# EAGLE library part STLZ_1550/12GV (library con-ptr-stlz1550)
HEADER
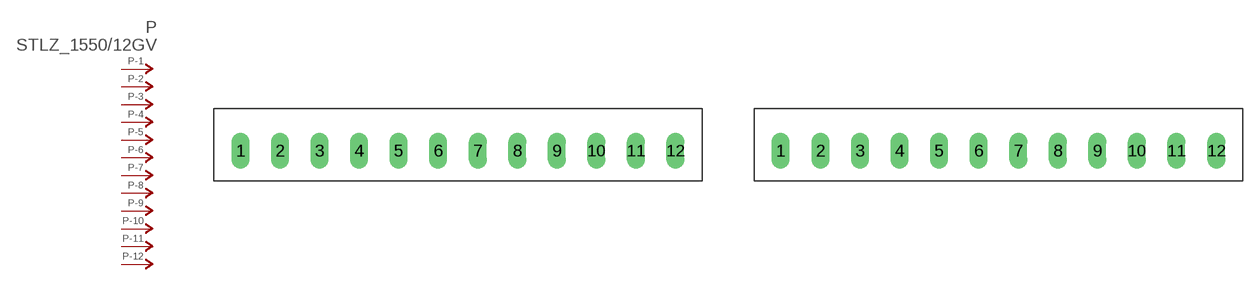
[diagram p4: symbol with the pads of PAC-12; footprints PAC-12, PAC-12_0P05MM_OFFSET]

Designator prefix P; gates -1=P-NV -2=P-N -3=P-N -4=P-N -5=P-N -6=P-N -7=P-N -8=P-N -9=P-N -10=P-N -11=P-N -12=P-N

## STLZ_1550/12GV (OC_TME: 15EDGVC3.81-12P)  [PAC-12]
1  -1:P  pas
2  -2:P  pas
3  -3:P  pas
4  -4:P  pas
5  -5:P  pas
6  -6:P  pas
7  -7:P  pas
8  -8:P  pas
9  -9:P  pas
10  -10:P  pas
11  -11:P  pas
12  -12:P  pas

## STLZ_1550/12GV0P05MM_OFFSET  [PAC-12_0P05MM_OFFSET]
Pads as for PAC-12

## STLZ_1550/12GVOP1MM_OFFSET  [PAC-12_0P1MM_OFFSET]
Pads as for PAC-12

## STLZ_1550/12GV0P15MM_OFFSET  [PAC-12_0P15MM_OFFSET]
Pads as for PAC-12

## STLZ_1550/12GV0P2MM_OFFSET  [PAC-12_0P2MM_OFFSET]
Pads as for PAC-12

## Footprint PAC-12 (pad centres in mm)
HEADER
drill 1.15 long: 1 -20.955,0; 2 -17.145,0; 3 -13.335,0; 4 -9.525,0; 5 -5.715,0; 6 -1.905,0; 7 1.905,0; 8 5.715,0; 9 9.525,0; 10 13.335,0; 11 17.145,0; 12 20.955,0

## Footprint PAC-12_0P05MM_OFFSET (pad centres in mm)
1st and 12th pins are off from the pitch with ±0.05 mm to secure the connector before the TH soldering.
drill 1.15 long: 1 -21.005,0; 2 -17.145,0; 3 -13.335,0; 4 -9.525,0; 5 -5.715,0; 6 -1.905,0; 7 1.905,0; 8 5.715,0; 9 9.525,0; 10 13.335,0; 11 17.145,0; 12 21.005,0

## Footprint PAC-12_0P1MM_OFFSET (pad centres in mm)
1st and 12th pins are off from the pitch with ±0.1 mm to secure the connector before the TH soldering.
drill 1.15 long: 1 -21.055,0; 2 -17.145,0; 3 -13.335,0; 4 -9.525,0; 5 -5.715,0; 6 -1.905,0; 7 1.905,0; 8 5.715,0; 9 9.525,0; 10 13.335,0; 11 17.145,0; 12 21.055,0

## Footprint PAC-12_0P15MM_OFFSET (pad centres in mm)
1st and 12th pins are off from the pitch with ±0.15 mm to secure the connector before the TH soldering.
drill 1.15 long: 1 -21.105,0; 2 -17.145,0; 3 -13.335,0; 4 -9.525,0; 5 -5.715,0; 6 -1.905,0; 7 1.905,0; 8 5.715,0; 9 9.525,0; 10 13.335,0; 11 17.145,0; 12 21.105,0

## Footprint PAC-12_0P2MM_OFFSET (pad centres in mm)
1st and 12th pins are off from the pitch with ±0.2 mm to secure the connector before the TH soldering.
drill 1.15 long: 1 -21.155,0; 2 -17.145,0; 3 -13.335,0; 4 -9.525,0; 5 -5.715,0; 6 -1.905,0; 7 1.905,0; 8 5.715,0; 9 9.525,0; 10 13.335,0; 11 17.145,0; 12 21.155,0